# Altium integrated library SSW-110-22-G-D-VS.IntLib: 1 symbol
Pins are listed as number, name and electrical type; pins without a type are passive.

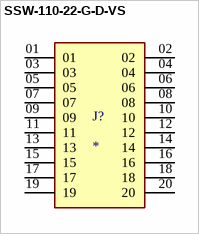
[diagram p0: symbol SSW-110-22-G-D-VS]

## SSW-110-22-G-D-VS
designator J?
MF: Samtec; MP: SSW-110-22-G-D-VS; Price: None; Availability: Unavailable; Package: None; Value: *
footprint SAMTEC_SSW-110-22-G-D-VS
pins: 01, 02, 03, 04, 05, 06, 07, 08, 09, 10, 11, 12, 13, 14, 15, 16, 17, 18, 19, 20